# Altium footprint library Footprint.PcbLib: 33 footprints (part 2 of 3)
Each footprint in its own frame and in the unit in brackets; x right, y up, seen from the top. Pads: shape width x height; smd on the part's side, far side on the other; paste and mask are expansions set on the pad; w line width, h text height; cw(c..) or ccw(c..) is an arc to the next point about the centre after c.
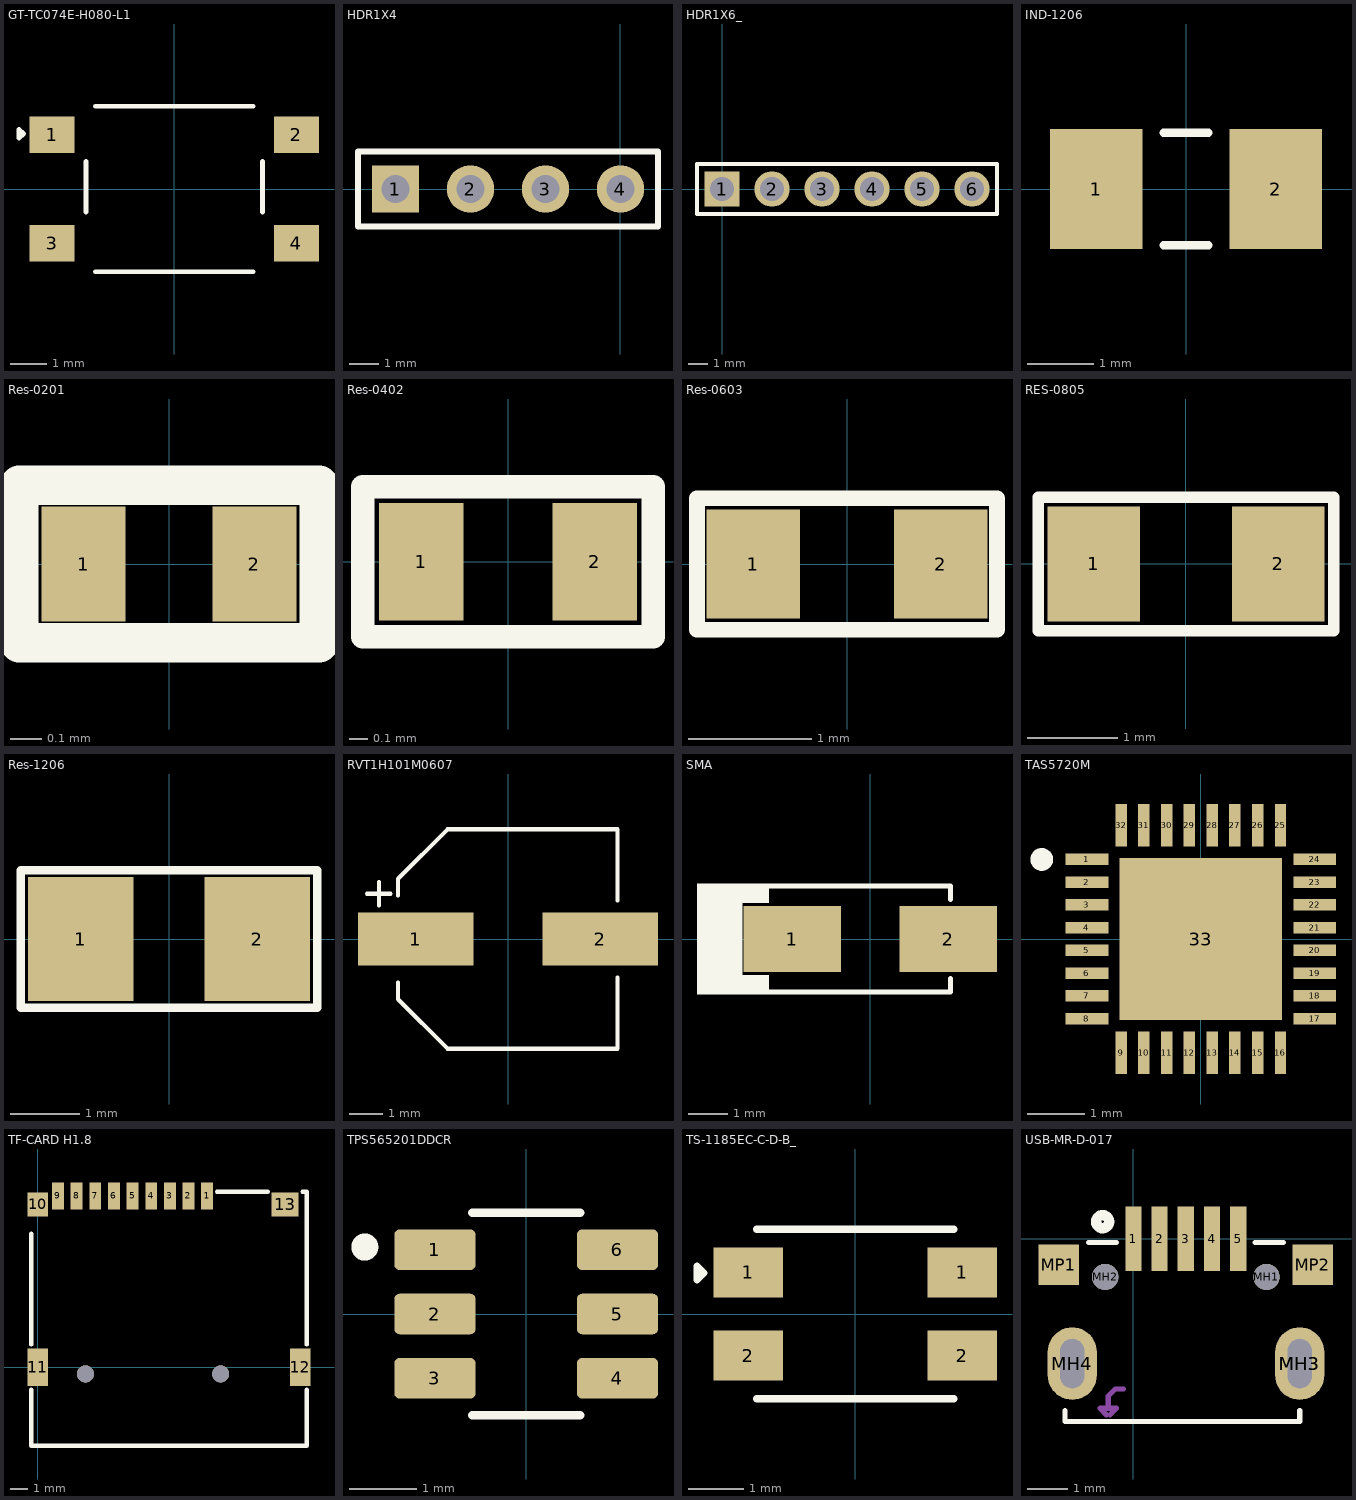
[diagram p1: the footprints below, top view; thin cyan lines are the x and y axes]

## GT-TC074E-H080-L1 [mm]
pads (4):
  rect 1.25x1 smd: 1(-3.375,1.5) 2(3.375,1.5) 3(-3.375,-1.5) 4(3.375,-1.5)
Top Overlay:
  lines w0.127: -2.438,-0.635 -2.438,0.762 ; -2.184,-2.286 2.184,-2.286 ; -2.184,2.286 2.184,2.286 ; 2.438,-0.635 2.438,0.762 ; -4.289,1.398 -4.289,1.652 -4.162,1.525 -4.289,1.398
3D body "G-Switch GT-TC074E-H080-L1.STEP": height 8, standoff 0, extent -3.75,-2.255 3.75,2.245

## HDR1X4 [mm]
pads (4):
  rect 1.6x1.6 hole 0.95: 1(-7.62,0)
  round 1.6 hole 0.95: 2(-5.08,0) 3(-2.54,0) 4(0,0)
Top Overlay:
  lines w0.2: -8.89,-1.27 1.27,-1.27 1.27,1.27 -8.89,1.27 -8.89,-1.27
3D body "User Library-1x4 TH Pitch 2_54mm.STEP": height 9.5, standoff -3.2, extent -8.89,-1.27 1.27,1.27

## HDR1X6_ [mm] "Connector; Header; 6 Position"
pads (6):
  rect 1.8x1.8 hole 1.2: 1(0,0)
  round 1.8 hole 1.2: 2(2.54,0) 3(5.08,0) 4(7.62,0) 5(10.16,0) 6(12.7,0)
Top Overlay:
  lines w0.2: -1.27,-1.27 -1.27,1.27 13.97,1.27 13.97,-1.27 -1.27,-1.27
3D body "User Library-Header_Male_6Pin.STEP": height 8.54, standoff -3, extent -1.27,-1.245 13.97,1.245

## IND-1206 [mm]
pads (2):
  rect 1.4x1.82 smd: 1(-1.36,0) 2(1.36,0)
Top Overlay:
  lines w0.127: -0.34,-0.849 0.34,-0.849 ; -0.34,0.849 0.34,0.849
3D body "BLM31PG121SN1L.STEP": height 1.3, standoff 0, extent -1.6,-0.8 1.6,0.8

## Res-0201 [mm]
pads (2):
  rect 0.27x0.37 smd mask+0.055: 1(-0.275,0) 2(0.275,0)
Top Overlay:
  lines w0.127: -0.483,-0.254 0.483,-0.254 0.483,0.254 -0.483,0.254 -0.483,-0.254
3D body "User Library-0201(0603M) Res.step": height 0.29, standoff -0.02, extent -0.305,-0.152 0.305,0.153

## Res-0402 [mil]
pads (2):
  rect 18x25 smd mask+2.17: 1(-18.5,0) 2(18.5,0)
Top Overlay:
  lines w0.13: -32,-17 32,-17
  lines w5: -31,-16 -31,16 31,16 31,-16 -31,-16
3D body "User Library-RES_1005-0402.step": height 16.14, standoff 0, extent -22.63,-10.82 22.64,10.83

## Res-0603 [mil]
pads (2):
  rect 30x35 smd: 1(-30,0) 2(30,0)
Top Overlay:
  lines w5: -48,-21 48,-21 48,21 -48,21 -48,-21
3D body "User Library-RESC1608X05N.step": height 17.76, standoff 0, extent -30.52,-16.74 30.51,16.73

## RES-0805 [mil] "SMD 0805"
pads (2):
  rect 40x50 smd: 1(-40,0) 2(40,0)
Top Overlay:
  lines w5: -64,-29 64,-29 64,29 -64,29 -64,-29
3D body "User Library-CR2012-0805.STEP": height 23.62, standoff 0, extent -39.34,-24.75 39.4,24.46

## Res-1206 [mil]
pads (2):
  rect 60x70 smd: 1(-50,0) 2(50,0)
Top Overlay:
  lines w5: -84,-39 84,-39 84,39 -84,39 -84,-39
3D body "User Library-CR3216-1206.step": height 23.62, standoff 0, extent -62.99,-31.5 62.99,31.5

## RVT1H101M0607 [mm]
pads (2):
  rect 3.5x1.6 smd: 1(-2.8,0) 2(2.8,0)
Top Overlay:
  lines w0.127: -4.273,1.372 -3.562,1.372 ; -3.918,1.016 -3.918,1.727 ; -3.333,-1.321 -3.333,-1.829 -1.835,-3.327 3.321,-3.327 3.321,-1.168 ; -3.333,1.321 -3.333,1.829 -1.835,3.327 3.321,3.327 3.321,1.168
3D body "RVT1C471M0607.STEP": height 7.94, standoff -0.01, extent -3.306,-3.325 3.294,3.275

## SMA [mm]
pads (2):
  rect 2.5x1.7 smd: 1(-2,0) 2(2,0)
Top Overlay:
  rectangle: -3.3,0.924 -2.596,1.422
  rectangle: -4.445,-1.422 -3.278,1.422
  rectangle: -3.3,-1.422 -2.596,-0.924
  lines w0.127: -2.658,-1.358 2.061,-1.358 2.061,-1.012 ; -2.658,1.358 2.061,1.358 2.061,1.012
3D body "User Library-DO-214AC SMA.step": height 2.4, standoff 0, extent -2.6,-1.3 2.6,1.3

## TAS5720M [mm]
pads (33):
  rect 0.75x0.2 smd mask+0.08: 1(-2,1.4) 2(-2,1) 3(-2,0.6) 4(-2,0.2) 5(-2,-0.2) 6(-2,-0.6) 7(-2,-1) 8(-2,-1.4) 17(2,-1.4) 18(2,-1) 19(2,-0.6) 20(2,-0.2) 21(2,0.2) 22(2,0.6) 23(2,1) 24(2,1.4)
  rect 0.2x0.75 smd mask+0.08: 9(-1.4,-2) 10(-1,-2) 11(-0.6,-2) 12(-0.2,-2) 13(0.2,-2) 14(0.6,-2) 15(1,-2) 16(1.4,-2) 25(1.4,2) 26(1,2) 27(0.6,2) 28(0.2,2) 29(-0.2,2) 30(-0.6,2) 31(-1,2) 32(-1.4,2)
  rect 2.85x2.85 smd: 33(0,0)
Top Overlay:
  circle w0.2: c-2.794,1.397 r0.1
3D body "step_temp.STEP": height 1, standoff 0, extent -2,-2 2,2

## TF-CARD H1.8 [mm]
pads (15):
  rect 0.7x1.6 smd paste+0 mask+0.05: 1(10,10.1) 2(8.9,10.1) 3(7.8,10.1) 4(6.7,10.1) 5(5.6,10.1) 6(4.5,10.1) 7(3.4,10.1) 8(2.3,10.1) 9(1.2,10.1)
  rect 1.2x1.4 smd paste+0 mask+0.05: 10(0.003,9.6)
  rect 1.2x2.2 smd paste+0 mask+0.05: 11(0,0) 12(15.5,0)
  rect 1.6x1.4 smd paste+0 mask+0.05: 13(14.6,9.6)
  round 1 hole 1 unplated paste+0: ""(2.82,-0.4) ""(10.8,-0.4)
Top Overlay:
  lines w0.254: -0.378,-1.331 -0.378,-4.632 15.878,-4.632 15.878,-1.331 ; -0.378,1.331 -0.378,7.869 ; 10.581,10.354 13.575,10.354 ; 15.625,10.354 15.878,10.354 15.878,1.331

## TPS565201DDCR [mm]
pads (6):
  rrect25% 1.2x0.6 smd: 1(-1.35,0.95) 2(-1.35,0) 3(-1.35,-0.95) 4(1.35,-0.95) 5(1.35,0) 6(1.35,0.95)
Top Overlay:
  circle w0.2: c-2.388,0.991 r0.1
  lines w0.127: -0.8,-1.5 0.8,-1.5 ; -0.8,1.5 0.8,1.5
3D body "TPS565201DDCR.STEP": height 1.1, standoff 0, extent -1.4,-1.478 1.4,1.422

## TS-1185EC-C-D-B_ [mm]
pads (4):
  rect 1.25x0.9 smd: 1(-1.925,0.75) 1(1.925,0.75) 2(-1.925,-0.75) 2(1.925,-0.75)
Top Overlay:
  lines w0.127: -1.778,-1.524 1.778,-1.524 ; -1.778,1.524 1.778,1.524 ; -2.845,0.61 -2.718,0.737 -2.845,0.864 -2.845,0.61
3D body "ts-1185ec-c-d-b.stp": height 2, standoff 0, extent -2.325,-1.5 2.325,1.5

## USB-MR-D-017 [mm]
pads (12):
  rect 0.4x1.6 smd: 1(0,0) 2(0.65,0) 3(1.3,0) 4(1.95,0) 5(2.6,0)
  round 0.65 hole 0.65 unplated: MH1(3.3,-0.95) MH2(-0.7,-0.95)
  oval 1.22x1.8 hole 0.6 slot 1.22 at 90 deg: MH3(4.125,-3.1) MH3(4.125,-3.1) MH4(-1.515,-3.1)
  rect 1x1 smd: MP1(-1.85,-0.65) MP2(4.45,-0.65)
Top Overlay:
  circle w0.254: c-0.762,0.419 r0.163
  lines w0.127: -1.695,-4.26 -1.694,-4.541 4.127,-4.541 4.126,-4.263 ; -1.116,-0.098 -0.416,-0.098 ; 3.016,-0.098 3.716,-0.098
Mechanical 13:
  lines w0.127: -0.664,-4.372 -0.827,-4.209 -0.624,-4.209 ; -0.584,-4.372 -0.421,-4.209 -0.624,-4.209 ; -0.243,-3.726 -0.446,-3.726 -0.624,-3.904 -0.624,-4.209
  text "PCB Edge" at -0.094,-4.005 h0.8
3D body "usb-mr-d-017.stp": height 1.52, standoff -1.28, extent -2.405,-6.001 4.995,-0.301